# Altium integrated library Panasonic_ERJ_1206.IntLib: 1141 symbols (part 3 of 22)
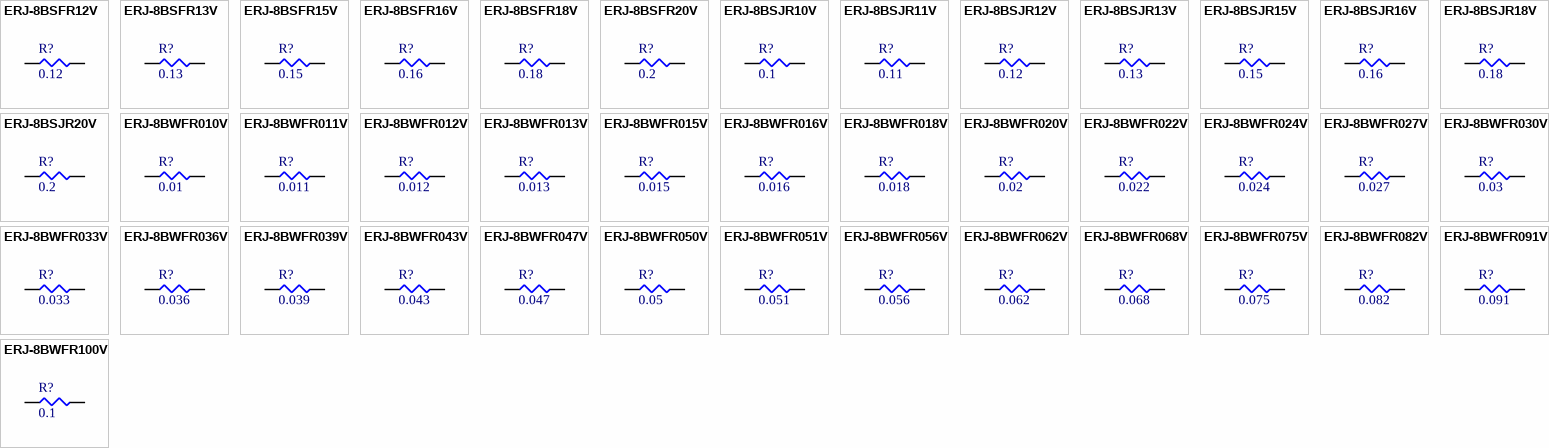
[diagram p30: symbols ERJ-8BSFR12V to ERJ-8BWFR100V]

## ERJ-8BWFR027V
designator R?, comment 0.027
RES SMD 0.027 OHM 1% 1W 1206; Part Number: ERJ-8BWFR027V; Manufacturer: Panasonic Electronic Components; Factory Stock: 0; Unit Price (USD): 0.23625; @ qty: 1500; Minimum Quantity: 1; Temperature Coefficient: ±150ppm/°C; Datasheets: https://industrial.panasonic.com/cdbs/www-data/pdf/RDA0000/AOA0000C239.pdf; Image: //media.digikey.com/Renders/Panasonic%20Renders/ERJ-1206%20Pkg.jpg; Digi-Key Part Number: P.027AUCT-ND; Quantity Available: 7593; Packaging: Cut Tape (CT); Series: ERJ; Part Status: Active; Value: 0.027; Tolerance: ±1%; Power (Watts): 1W; Composition: Thick Film; Features: Automotive AEC-Q200, Current Sense; Operating Temperature: -55°C ~ 155°C; Package / Case: 1206 (3216 Metric); Supplier Device Package: 1206; Size / Dimension: 0.126" L x 0.063" W (3.20mm x 1.60mm); Height - Seated (Max): 0.030" (0.75mm); Number of Terminations: 2; Failure Rate: -
footprint SMD-1206-RES
pins: 1, 2

## ERJ-8BWFR030V
designator R?, comment 0.03
RES SMD 0.03 OHM 1% 1W 1206; Part Number: ERJ-8BWFR030V; Manufacturer: Panasonic Electronic Components; Factory Stock: 0; Unit Price (USD): 0.23625; @ qty: 1500; Minimum Quantity: 1; Temperature Coefficient: ±150ppm/°C; Datasheets: https://industrial.panasonic.com/cdbs/www-data/pdf/RDA0000/AOA0000C239.pdf; Image: //media.digikey.com/Renders/Panasonic%20Renders/ERJ-1206%20Pkg.jpg; Digi-Key Part Number: P.030AUCT-ND; Quantity Available: 5151; Packaging: Cut Tape (CT); Series: ERJ; Part Status: Active; Value: 0.03; Tolerance: ±1%; Power (Watts): 1W; Composition: Thick Film; Features: Automotive AEC-Q200, Current Sense; Operating Temperature: -55°C ~ 155°C; Package / Case: 1206 (3216 Metric); Supplier Device Package: 1206; Size / Dimension: 0.126" L x 0.063" W (3.20mm x 1.60mm); Height - Seated (Max): 0.030" (0.75mm); Number of Terminations: 2; Failure Rate: -
footprint SMD-1206-RES
pins: 1, 2

## ERJ-8BWFR033V
designator R?, comment 0.033
RES SMD 0.033 OHM 1% 1W 1206; Part Number: ERJ-8BWFR033V; Manufacturer: Panasonic Electronic Components; Factory Stock: 0; Unit Price (USD): 0.23625; @ qty: 1500; Minimum Quantity: 1; Temperature Coefficient: ±150ppm/°C; Datasheets: https://industrial.panasonic.com/cdbs/www-data/pdf/RDA0000/AOA0000C239.pdf; Image: //media.digikey.com/Renders/Panasonic%20Renders/ERJ-1206%20Pkg.jpg; Digi-Key Part Number: P.033AUCT-ND; Quantity Available: 17144; Packaging: Cut Tape (CT); Series: ERJ; Part Status: Active; Value: 0.033; Tolerance: ±1%; Power (Watts): 1W; Composition: Thick Film; Features: Automotive AEC-Q200, Current Sense; Operating Temperature: -55°C ~ 155°C; Package / Case: 1206 (3216 Metric); Supplier Device Package: 1206; Size / Dimension: 0.126" L x 0.063" W (3.20mm x 1.60mm); Height - Seated (Max): 0.030" (0.75mm); Number of Terminations: 2; Failure Rate: -
footprint SMD-1206-RES
pins: 1, 2

## ERJ-8BWFR036V
designator R?, comment 0.036
RES SMD 0.036 OHM 1% 1W 1206; Part Number: ERJ-8BWFR036V; Manufacturer: Panasonic Electronic Components; Factory Stock: 0; Unit Price (USD): 0.23625; @ qty: 1500; Minimum Quantity: 1; Temperature Coefficient: ±150ppm/°C; Datasheets: https://industrial.panasonic.com/cdbs/www-data/pdf/RDA0000/AOA0000C239.pdf; Image: //media.digikey.com/Renders/Panasonic%20Renders/ERJ-1206%20Pkg.jpg; Digi-Key Part Number: P.036AUCT-ND; Quantity Available: 11848; Packaging: Cut Tape (CT); Series: ERJ; Part Status: Active; Value: 0.036; Tolerance: ±1%; Power (Watts): 1W; Composition: Thick Film; Features: Automotive AEC-Q200, Current Sense; Operating Temperature: -55°C ~ 155°C; Package / Case: 1206 (3216 Metric); Supplier Device Package: 1206; Size / Dimension: 0.126" L x 0.063" W (3.20mm x 1.60mm); Height - Seated (Max): 0.030" (0.75mm); Number of Terminations: 2; Failure Rate: -
footprint SMD-1206-RES
pins: 1, 2

## ERJ-8BWFR039V
designator R?, comment 0.039
RES SMD 0.039 OHM 1% 1W 1206; Part Number: ERJ-8BWFR039V; Manufacturer: Panasonic Electronic Components; Factory Stock: 0; Unit Price (USD): 0.23625; @ qty: 1500; Minimum Quantity: 1; Temperature Coefficient: ±150ppm/°C; Datasheets: https://industrial.panasonic.com/cdbs/www-data/pdf/RDA0000/AOA0000C239.pdf; Image: //media.digikey.com/Renders/Panasonic%20Renders/ERJ-1206%20Pkg.jpg; Digi-Key Part Number: P.039AUCT-ND; Quantity Available: 15212; Packaging: Cut Tape (CT); Series: ERJ; Part Status: Active; Value: 0.039; Tolerance: ±1%; Power (Watts): 1W; Composition: Thick Film; Features: Automotive AEC-Q200, Current Sense; Operating Temperature: -55°C ~ 155°C; Package / Case: 1206 (3216 Metric); Supplier Device Package: 1206; Size / Dimension: 0.126" L x 0.063" W (3.20mm x 1.60mm); Height - Seated (Max): 0.030" (0.75mm); Number of Terminations: 2; Failure Rate: -
footprint SMD-1206-RES
pins: 1, 2

## ERJ-8BWFR043V
designator R?, comment 0.043
RES SMD 0.043 OHM 1% 1W 1206; Part Number: ERJ-8BWFR043V; Manufacturer: Panasonic Electronic Components; Factory Stock: 0; Unit Price (USD): 0.23625; @ qty: 1500; Minimum Quantity: 1; Temperature Coefficient: ±150ppm/°C; Datasheets: https://industrial.panasonic.com/cdbs/www-data/pdf/RDA0000/AOA0000C239.pdf; Image: //media.digikey.com/Renders/Panasonic%20Renders/ERJ-1206%20Pkg.jpg; Digi-Key Part Number: P.043AUCT-ND; Quantity Available: 6611; Packaging: Cut Tape (CT); Series: ERJ; Part Status: Active; Value: 0.043; Tolerance: ±1%; Power (Watts): 1W; Composition: Thick Film; Features: Automotive AEC-Q200, Current Sense; Operating Temperature: -55°C ~ 155°C; Package / Case: 1206 (3216 Metric); Supplier Device Package: 1206; Size / Dimension: 0.126" L x 0.063" W (3.20mm x 1.60mm); Height - Seated (Max): 0.030" (0.75mm); Number of Terminations: 2; Failure Rate: -
footprint SMD-1206-RES
pins: 1, 2

## ERJ-8BWFR047V
designator R?, comment 0.047
RES SMD 0.047 OHM 1% 1W 1206; Part Number: ERJ-8BWFR047V; Manufacturer: Panasonic Electronic Components; Factory Stock: 0; Unit Price (USD): 0.23625; @ qty: 1500; Minimum Quantity: 1; Temperature Coefficient: ±100ppm/°C; Datasheets: https://industrial.panasonic.com/cdbs/www-data/pdf/RDA0000/AOA0000C239.pdf; Image: //media.digikey.com/Renders/Panasonic%20Renders/ERJ-1206%20Pkg.jpg; Digi-Key Part Number: P.047AUCT-ND; Quantity Available: 4155; Packaging: Cut Tape (CT); Series: ERJ; Part Status: Active; Value: 0.047; Tolerance: ±1%; Power (Watts): 1W; Composition: Thick Film; Features: Automotive AEC-Q200, Current Sense; Operating Temperature: -55°C ~ 155°C; Package / Case: 1206 (3216 Metric); Supplier Device Package: 1206; Size / Dimension: 0.126" L x 0.063" W (3.20mm x 1.60mm); Height - Seated (Max): 0.030" (0.75mm); Number of Terminations: 2; Failure Rate: -
footprint SMD-1206-RES
pins: 1, 2

## ERJ-8BWFR050V
designator R?, comment 0.05
RES SMD 0.05 OHM 1% 1W 1206; Part Number: ERJ-8BWFR050V; Manufacturer: Panasonic Electronic Components; Factory Stock: 0; Unit Price (USD): 0.19818; @ qty: 1500; Minimum Quantity: 1; Temperature Coefficient: ±100ppm/°C; Datasheets: https://industrial.panasonic.com/cdbs/www-data/pdf/RDA0000/AOA0000C239.pdf; Image: //media.digikey.com/Renders/Panasonic%20Renders/ERJ-1206%20Pkg.jpg; Digi-Key Part Number: P17693CT-ND; Quantity Available: 799; Packaging: Cut Tape (CT); Series: ERJ; Part Status: Active; Value: 0.05; Tolerance: ±1%; Power (Watts): 1W; Composition: Thick Film; Features: Automotive AEC-Q200, Current Sense; Operating Temperature: -55°C ~ 155°C; Package / Case: 1206 (3216 Metric); Supplier Device Package: 1206; Size / Dimension: 0.126" L x 0.063" W (3.20mm x 1.60mm); Height - Seated (Max): 0.030" (0.75mm); Number of Terminations: 2; Failure Rate: -
footprint SMD-1206-RES
pins: 1, 2

## ERJ-8BWFR051V
designator R?, comment 0.051
RES SMD 0.051 OHM 1% 1W 1206; Part Number: ERJ-8BWFR051V; Manufacturer: Panasonic Electronic Components; Factory Stock: 0; Unit Price (USD): 0.23625; @ qty: 1500; Minimum Quantity: 1; Temperature Coefficient: ±100ppm/°C; Datasheets: https://industrial.panasonic.com/cdbs/www-data/pdf/RDA0000/AOA0000C239.pdf; Image: //media.digikey.com/Renders/Panasonic%20Renders/ERJ-1206%20Pkg.jpg; Digi-Key Part Number: P.051AUCT-ND; Quantity Available: 4281; Packaging: Cut Tape (CT); Series: ERJ; Part Status: Active; Value: 0.051; Tolerance: ±1%; Power (Watts): 1W; Composition: Thick Film; Features: Automotive AEC-Q200, Current Sense; Operating Temperature: -55°C ~ 155°C; Package / Case: 1206 (3216 Metric); Supplier Device Package: 1206; Size / Dimension: 0.126" L x 0.063" W (3.20mm x 1.60mm); Height - Seated (Max): 0.030" (0.75mm); Number of Terminations: 2; Failure Rate: -
footprint SMD-1206-RES
pins: 1, 2

## ERJ-8BWFR056V
designator R?, comment 0.056
RES SMD 0.056 OHM 1% 1W 1206; Part Number: ERJ-8BWFR056V; Manufacturer: Panasonic Electronic Components; Factory Stock: 0; Unit Price (USD): 0.23625; @ qty: 1500; Minimum Quantity: 1; Temperature Coefficient: ±100ppm/°C; Datasheets: https://industrial.panasonic.com/cdbs/www-data/pdf/RDA0000/AOA0000C239.pdf; Image: //media.digikey.com/Renders/Panasonic%20Renders/ERJ-1206%20Pkg.jpg; Digi-Key Part Number: P.056AUCT-ND; Quantity Available: 3785; Packaging: Cut Tape (CT); Series: ERJ; Part Status: Active; Value: 0.056; Tolerance: ±1%; Power (Watts): 1W; Composition: Thick Film; Features: Automotive AEC-Q200, Current Sense; Operating Temperature: -55°C ~ 155°C; Package / Case: 1206 (3216 Metric); Supplier Device Package: 1206; Size / Dimension: 0.126" L x 0.063" W (3.20mm x 1.60mm); Height - Seated (Max): 0.030" (0.75mm); Number of Terminations: 2; Failure Rate: -
footprint SMD-1206-RES
pins: 1, 2

## ERJ-8BWFR062V
designator R?, comment 0.062
RES SMD 0.062 OHM 1% 1W 1206; Part Number: ERJ-8BWFR062V; Manufacturer: Panasonic Electronic Components; Factory Stock: 0; Unit Price (USD): 0.23625; @ qty: 1500; Minimum Quantity: 1; Temperature Coefficient: ±100ppm/°C; Datasheets: https://industrial.panasonic.com/cdbs/www-data/pdf/RDA0000/AOA0000C239.pdf; Image: //media.digikey.com/Renders/Panasonic%20Renders/ERJ-1206%20Pkg.jpg; Digi-Key Part Number: P.062AUCT-ND; Quantity Available: 3280; Packaging: Cut Tape (CT); Series: ERJ; Part Status: Active; Value: 0.062; Tolerance: ±1%; Power (Watts): 1W; Composition: Thick Film; Features: Automotive AEC-Q200, Current Sense; Operating Temperature: -55°C ~ 155°C; Package / Case: 1206 (3216 Metric); Supplier Device Package: 1206; Size / Dimension: 0.126" L x 0.063" W (3.20mm x 1.60mm); Height - Seated (Max): 0.030" (0.75mm); Number of Terminations: 2; Failure Rate: -
footprint SMD-1206-RES
pins: 1, 2

## ERJ-8BWFR068V
designator R?, comment 0.068
RES SMD 0.068 OHM 1% 1W 1206; Part Number: ERJ-8BWFR068V; Manufacturer: Panasonic Electronic Components; Factory Stock: 0; Unit Price (USD): 0.23625; @ qty: 1500; Minimum Quantity: 1; Temperature Coefficient: ±100ppm/°C; Datasheets: https://industrial.panasonic.com/cdbs/www-data/pdf/RDA0000/AOA0000C239.pdf; Image: //media.digikey.com/Renders/Panasonic%20Renders/ERJ-1206%20Pkg.jpg; Digi-Key Part Number: P.068AUCT-ND; Quantity Available: 1520; Packaging: Cut Tape (CT); Series: ERJ; Part Status: Active; Value: 0.068; Tolerance: ±1%; Power (Watts): 1W; Composition: Thick Film; Features: Automotive AEC-Q200, Current Sense; Operating Temperature: -55°C ~ 155°C; Package / Case: 1206 (3216 Metric); Supplier Device Package: 1206; Size / Dimension: 0.126" L x 0.063" W (3.20mm x 1.60mm); Height - Seated (Max): 0.030" (0.75mm); Number of Terminations: 2; Failure Rate: -
footprint SMD-1206-RES
pins: 1, 2

## ERJ-8BWFR075V
designator R?, comment 0.075
RES SMD 0.075 OHM 1% 1W 1206; Part Number: ERJ-8BWFR075V; Manufacturer: Panasonic Electronic Components; Factory Stock: 0; Unit Price (USD): 0.23625; @ qty: 1500; Minimum Quantity: 1; Temperature Coefficient: ±100ppm/°C; Datasheets: https://industrial.panasonic.com/cdbs/www-data/pdf/RDA0000/AOA0000C239.pdf; Image: //media.digikey.com/Renders/Panasonic%20Renders/ERJ-1206%20Pkg.jpg; Digi-Key Part Number: P.075AUCT-ND; Quantity Available: 8511; Packaging: Cut Tape (CT); Series: ERJ; Part Status: Active; Value: 0.075; Tolerance: ±1%; Power (Watts): 1W; Composition: Thick Film; Features: Automotive AEC-Q200, Current Sense; Operating Temperature: -55°C ~ 155°C; Package / Case: 1206 (3216 Metric); Supplier Device Package: 1206; Size / Dimension: 0.126" L x 0.063" W (3.20mm x 1.60mm); Height - Seated (Max): 0.030" (0.75mm); Number of Terminations: 2; Failure Rate: -
footprint SMD-1206-RES
pins: 1, 2

## ERJ-8BWFR082V
designator R?, comment 0.082
RES SMD 0.082 OHM 1% 1W 1206; Part Number: ERJ-8BWFR082V; Manufacturer: Panasonic Electronic Components; Factory Stock: 0; Unit Price (USD): 0.23625; @ qty: 1500; Minimum Quantity: 1; Temperature Coefficient: ±100ppm/°C; Datasheets: https://industrial.panasonic.com/cdbs/www-data/pdf/RDA0000/AOA0000C239.pdf; Image: //media.digikey.com/Renders/Panasonic%20Renders/ERJ-1206%20Pkg.jpg; Digi-Key Part Number: P.082AUCT-ND; Quantity Available: 8136; Packaging: Cut Tape (CT); Series: ERJ; Part Status: Active; Value: 0.082; Tolerance: ±1%; Power (Watts): 1W; Composition: Thick Film; Features: Automotive AEC-Q200, Current Sense; Operating Temperature: -55°C ~ 155°C; Package / Case: 1206 (3216 Metric); Supplier Device Package: 1206; Size / Dimension: 0.126" L x 0.063" W (3.20mm x 1.60mm); Height - Seated (Max): 0.030" (0.75mm); Number of Terminations: 2; Failure Rate: -
footprint SMD-1206-RES
pins: 1, 2

## ERJ-8BWFR091V
designator R?, comment 0.091
RES SMD 0.091 OHM 1% 1W 1206; Part Number: ERJ-8BWFR091V; Manufacturer: Panasonic Electronic Components; Factory Stock: 0; Unit Price (USD): 0.23625; @ qty: 1500; Minimum Quantity: 1; Temperature Coefficient: ±100ppm/°C; Datasheets: https://industrial.panasonic.com/cdbs/www-data/pdf/RDA0000/AOA0000C239.pdf; Image: //media.digikey.com/Renders/Panasonic%20Renders/ERJ-1206%20Pkg.jpg; Digi-Key Part Number: P.091AUCT-ND; Quantity Available: 1966; Packaging: Cut Tape (CT); Series: ERJ; Part Status: Active; Value: 0.091; Tolerance: ±1%; Power (Watts): 1W; Composition: Thick Film; Features: Automotive AEC-Q200, Current Sense; Operating Temperature: -55°C ~ 155°C; Package / Case: 1206 (3216 Metric); Supplier Device Package: 1206; Size / Dimension: 0.126" L x 0.063" W (3.20mm x 1.60mm); Height - Seated (Max): 0.030" (0.75mm); Number of Terminations: 2; Failure Rate: -
footprint SMD-1206-RES
pins: 1, 2

## ERJ-8BWFR100V
designator R?, comment 0.1
RES SMD 0.1 OHM 1% 1W 1206; Part Number: ERJ-8BWFR100V; Manufacturer: Panasonic Electronic Components; Factory Stock: 0; Unit Price (USD): 0.23625; @ qty: 1500; Minimum Quantity: 1; Temperature Coefficient: ±100ppm/°C; Datasheets: https://industrial.panasonic.com/cdbs/www-data/pdf/RDA0000/AOA0000C239.pdf; Image: //media.digikey.com/Renders/Panasonic%20Renders/ERJ-1206%20Pkg.jpg; Digi-Key Part Number: P.10AUCT-ND; Quantity Available: 16073; Packaging: Cut Tape (CT); Series: ERJ; Part Status: Active; Value: 0.1; Tolerance: ±1%; Power (Watts): 1W; Composition: Thick Film; Features: Automotive AEC-Q200, Current Sense; Operating Temperature: -55°C ~ 155°C; Package / Case: 1206 (3216 Metric); Supplier Device Package: 1206; Size / Dimension: 0.126" L x 0.063" W (3.20mm x 1.60mm); Height - Seated (Max): 0.030" (0.75mm); Number of Terminations: 2; Failure Rate: -
footprint SMD-1206-RES
pins: 1, 2

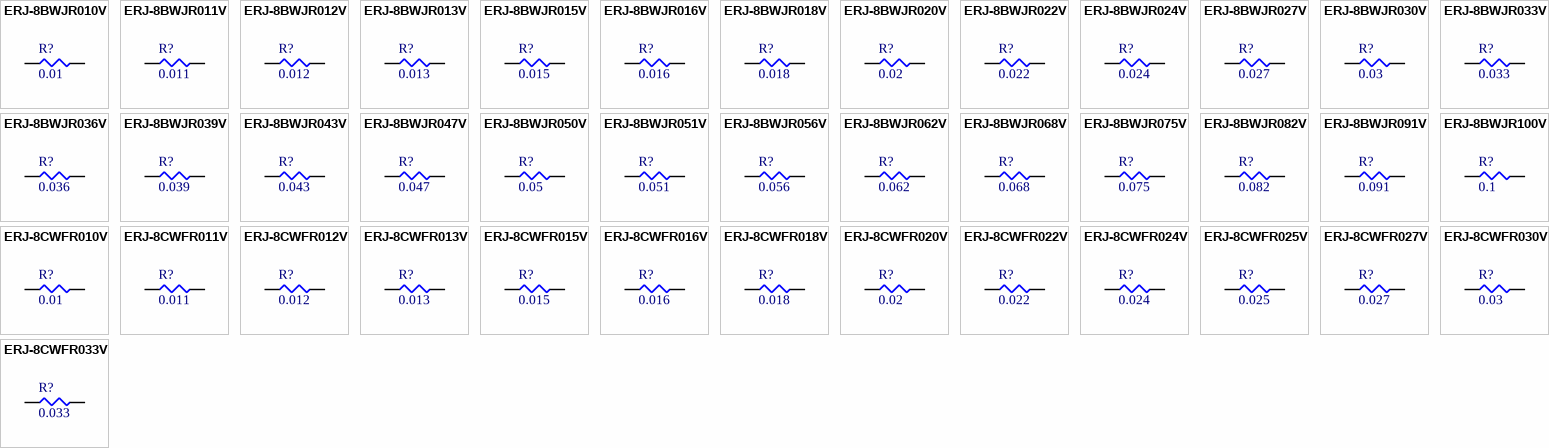
[diagram p3: symbols ERJ-8BWJR010V to ERJ-8CWFR033V]

## ERJ-8BWJR010V
designator R?, comment 0.01
RES SMD 0.01 OHM 5% 1W 1206; Part Number: ERJ-8BWJR010V; Manufacturer: Panasonic Electronic Components; Factory Stock: 0; Unit Price (USD): 0.15894; @ qty: 1500; Minimum Quantity: 1; Temperature Coefficient: ±200ppm/°C; Datasheets: https://industrial.panasonic.com/cdbs/www-data/pdf/RDA0000/AOA0000C239.pdf; Image: //media.digikey.com/Renders/Panasonic%20Renders/ERJ-1206%20Pkg.jpg; Digi-Key Part Number: P.010AVCT-ND; Quantity Available: 7438; Packaging: Cut Tape (CT); Series: ERJ; Part Status: Active; Value: 0.01; Tolerance: ±5%; Power (Watts): 1W; Composition: Thick Film; Features: Automotive AEC-Q200, Current Sense; Operating Temperature: -55°C ~ 155°C; Package / Case: 1206 (3216 Metric); Supplier Device Package: 1206; Size / Dimension: 0.126" L x 0.063" W (3.20mm x 1.60mm); Height - Seated (Max): 0.030" (0.75mm); Number of Terminations: 2; Failure Rate: -
footprint SMD-1206-RES
pins: 1, 2

## ERJ-8BWJR011V
designator R?, comment 0.011
RES SMD 0.011 OHM 5% 1W 1206; Part Number: ERJ-8BWJR011V; Manufacturer: Panasonic Electronic Components; Factory Stock: 0; Unit Price (USD): 0.15894; @ qty: 1500; Minimum Quantity: 1; Temperature Coefficient: ±200ppm/°C; Datasheets: https://industrial.panasonic.com/cdbs/www-data/pdf/RDA0000/AOA0000C239.pdf; Image: //media.digikey.com/Renders/Panasonic%20Renders/ERJ-1206%20Pkg.jpg; Digi-Key Part Number: P.011AVCT-ND; Quantity Available: 5234; Packaging: Cut Tape (CT); Series: ERJ; Part Status: Active; Value: 0.011; Tolerance: ±5%; Power (Watts): 1W; Composition: Thick Film; Features: Automotive AEC-Q200, Current Sense; Operating Temperature: -55°C ~ 155°C; Package / Case: 1206 (3216 Metric); Supplier Device Package: 1206; Size / Dimension: 0.126" L x 0.063" W (3.20mm x 1.60mm); Height - Seated (Max): 0.030" (0.75mm); Number of Terminations: 2; Failure Rate: -
footprint SMD-1206-RES
pins: 1, 2

## ERJ-8BWJR012V
designator R?, comment 0.012
RES SMD 0.012 OHM 5% 1W 1206; Part Number: ERJ-8BWJR012V; Manufacturer: Panasonic Electronic Components; Factory Stock: 0; Unit Price (USD): 0.15894; @ qty: 1500; Minimum Quantity: 1; Temperature Coefficient: ±200ppm/°C; Datasheets: https://industrial.panasonic.com/cdbs/www-data/pdf/RDA0000/AOA0000C239.pdf; Image: //media.digikey.com/Renders/Panasonic%20Renders/ERJ-1206%20Pkg.jpg; Digi-Key Part Number: P.012AVCT-ND; Quantity Available: 6598; Packaging: Cut Tape (CT); Series: ERJ; Part Status: Active; Value: 0.012; Tolerance: ±5%; Power (Watts): 1W; Composition: Thick Film; Features: Automotive AEC-Q200, Current Sense; Operating Temperature: -55°C ~ 155°C; Package / Case: 1206 (3216 Metric); Supplier Device Package: 1206; Size / Dimension: 0.126" L x 0.063" W (3.20mm x 1.60mm); Height - Seated (Max): 0.030" (0.75mm); Number of Terminations: 2; Failure Rate: -
footprint SMD-1206-RES
pins: 1, 2

## ERJ-8BWJR013V
designator R?, comment 0.013
RES SMD 0.013 OHM 5% 1W 1206; Part Number: ERJ-8BWJR013V; Manufacturer: Panasonic Electronic Components; Factory Stock: 0; Unit Price (USD): 0.15894; @ qty: 1500; Minimum Quantity: 1; Temperature Coefficient: ±200ppm/°C; Datasheets: https://industrial.panasonic.com/cdbs/www-data/pdf/RDA0000/AOA0000C239.pdf; Image: //media.digikey.com/Renders/Panasonic%20Renders/ERJ-1206%20Pkg.jpg; Digi-Key Part Number: P.013AVCT-ND; Quantity Available: 9705; Packaging: Cut Tape (CT); Series: ERJ; Part Status: Active; Value: 0.013; Tolerance: ±5%; Power (Watts): 1W; Composition: Thick Film; Features: Automotive AEC-Q200, Current Sense; Operating Temperature: -55°C ~ 155°C; Package / Case: 1206 (3216 Metric); Supplier Device Package: 1206; Size / Dimension: 0.126" L x 0.063" W (3.20mm x 1.60mm); Height - Seated (Max): 0.030" (0.75mm); Number of Terminations: 2; Failure Rate: -
footprint SMD-1206-RES
pins: 1, 2

## ERJ-8BWJR015V
designator R?, comment 0.015
RES SMD 0.015 OHM 5% 1W 1206; Part Number: ERJ-8BWJR015V; Manufacturer: Panasonic Electronic Components; Factory Stock: 0; Unit Price (USD): 0.15894; @ qty: 1500; Minimum Quantity: 1; Temperature Coefficient: ±200ppm/°C; Datasheets: https://industrial.panasonic.com/cdbs/www-data/pdf/RDA0000/AOA0000C239.pdf; Image: //media.digikey.com/Renders/Panasonic%20Renders/ERJ-1206%20Pkg.jpg; Digi-Key Part Number: P.015AVCT-ND; Quantity Available: 6792; Packaging: Cut Tape (CT); Series: ERJ; Part Status: Active; Value: 0.015; Tolerance: ±5%; Power (Watts): 1W; Composition: Thick Film; Features: Automotive AEC-Q200, Current Sense; Operating Temperature: -55°C ~ 155°C; Package / Case: 1206 (3216 Metric); Supplier Device Package: 1206; Size / Dimension: 0.126" L x 0.063" W (3.20mm x 1.60mm); Height - Seated (Max): 0.030" (0.75mm); Number of Terminations: 2; Failure Rate: -
footprint SMD-1206-RES
pins: 1, 2

## ERJ-8BWJR016V
designator R?, comment 0.016
RES SMD 0.016 OHM 5% 1W 1206; Part Number: ERJ-8BWJR016V; Manufacturer: Panasonic Electronic Components; Factory Stock: 0; Unit Price (USD): 0.15894; @ qty: 1500; Minimum Quantity: 1; Temperature Coefficient: ±200ppm/°C; Datasheets: https://industrial.panasonic.com/cdbs/www-data/pdf/RDA0000/AOA0000C239.pdf; Image: //media.digikey.com/Renders/Panasonic%20Renders/ERJ-1206%20Pkg.jpg; Digi-Key Part Number: P.016AVCT-ND; Quantity Available: 10866; Packaging: Cut Tape (CT); Series: ERJ; Part Status: Active; Value: 0.016; Tolerance: ±5%; Power (Watts): 1W; Composition: Thick Film; Features: Automotive AEC-Q200, Current Sense; Operating Temperature: -55°C ~ 155°C; Package / Case: 1206 (3216 Metric); Supplier Device Package: 1206; Size / Dimension: 0.126" L x 0.063" W (3.20mm x 1.60mm); Height - Seated (Max): 0.030" (0.75mm); Number of Terminations: 2; Failure Rate: -
footprint SMD-1206-RES
pins: 1, 2

## ERJ-8BWJR018V
designator R?, comment 0.018
RES SMD 0.018 OHM 5% 1W 1206; Part Number: ERJ-8BWJR018V; Manufacturer: Panasonic Electronic Components; Factory Stock: 0; Unit Price (USD): 0.15894; @ qty: 1500; Minimum Quantity: 1; Temperature Coefficient: ±200ppm/°C; Datasheets: https://industrial.panasonic.com/cdbs/www-data/pdf/RDA0000/AOA0000C239.pdf; Image: //media.digikey.com/Renders/Panasonic%20Renders/ERJ-1206%20Pkg.jpg; Digi-Key Part Number: P.018AVCT-ND; Quantity Available: 7867; Packaging: Cut Tape (CT); Series: ERJ; Part Status: Active; Value: 0.018; Tolerance: ±5%; Power (Watts): 1W; Composition: Thick Film; Features: Automotive AEC-Q200, Current Sense; Operating Temperature: -55°C ~ 155°C; Package / Case: 1206 (3216 Metric); Supplier Device Package: 1206; Size / Dimension: 0.126" L x 0.063" W (3.20mm x 1.60mm); Height - Seated (Max): 0.030" (0.75mm); Number of Terminations: 2; Failure Rate: -
footprint SMD-1206-RES
pins: 1, 2

## ERJ-8BWJR020V
designator R?, comment 0.02
RES SMD 0.02 OHM 5% 1W 1206; Part Number: ERJ-8BWJR020V; Manufacturer: Panasonic Electronic Components; Factory Stock: 0; Unit Price (USD): 0.15894; @ qty: 1500; Minimum Quantity: 1; Temperature Coefficient: ±150ppm/°C; Datasheets: https://industrial.panasonic.com/cdbs/www-data/pdf/RDA0000/AOA0000C239.pdf; Image: //media.digikey.com/Renders/Panasonic%20Renders/ERJ-1206%20Pkg.jpg; Digi-Key Part Number: P.020AVCT-ND; Quantity Available: 18071; Packaging: Cut Tape (CT); Series: ERJ; Part Status: Active; Value: 0.02; Tolerance: ±5%; Power (Watts): 1W; Composition: Thick Film; Features: Automotive AEC-Q200, Current Sense; Operating Temperature: -55°C ~ 155°C; Package / Case: 1206 (3216 Metric); Supplier Device Package: 1206; Size / Dimension: 0.126" L x 0.063" W (3.20mm x 1.60mm); Height - Seated (Max): 0.030" (0.75mm); Number of Terminations: 2; Failure Rate: -
footprint SMD-1206-RES
pins: 1, 2

## ERJ-8BWJR022V
designator R?, comment 0.022
RES SMD 0.022 OHM 5% 1W 1206; Part Number: ERJ-8BWJR022V; Manufacturer: Panasonic Electronic Components; Factory Stock: 0; Unit Price (USD): 0.15894; @ qty: 1500; Minimum Quantity: 1; Temperature Coefficient: ±150ppm/°C; Datasheets: https://industrial.panasonic.com/cdbs/www-data/pdf/RDA0000/AOA0000C239.pdf; Image: //media.digikey.com/Renders/Panasonic%20Renders/ERJ-1206%20Pkg.jpg; Digi-Key Part Number: P.022AVCT-ND; Quantity Available: 14245; Packaging: Cut Tape (CT); Series: ERJ; Part Status: Active; Value: 0.022; Tolerance: ±5%; Power (Watts): 1W; Composition: Thick Film; Features: Automotive AEC-Q200, Current Sense; Operating Temperature: -55°C ~ 155°C; Package / Case: 1206 (3216 Metric); Supplier Device Package: 1206; Size / Dimension: 0.126" L x 0.063" W (3.20mm x 1.60mm); Height - Seated (Max): 0.030" (0.75mm); Number of Terminations: 2; Failure Rate: -
footprint SMD-1206-RES
pins: 1, 2

## ERJ-8BWJR024V
designator R?, comment 0.024
RES SMD 0.024 OHM 5% 1W 1206; Part Number: ERJ-8BWJR024V; Manufacturer: Panasonic Electronic Components; Factory Stock: 0; Unit Price (USD): 0.15894; @ qty: 1500; Minimum Quantity: 1; Temperature Coefficient: ±150ppm/°C; Datasheets: https://industrial.panasonic.com/cdbs/www-data/pdf/RDA0000/AOA0000C239.pdf; Image: //media.digikey.com/Renders/Panasonic%20Renders/ERJ-1206%20Pkg.jpg; Digi-Key Part Number: P.024AVCT-ND; Quantity Available: 2648; Packaging: Cut Tape (CT); Series: ERJ; Part Status: Active; Value: 0.024; Tolerance: ±5%; Power (Watts): 1W; Composition: Thick Film; Features: Automotive AEC-Q200, Current Sense; Operating Temperature: -55°C ~ 155°C; Package / Case: 1206 (3216 Metric); Supplier Device Package: 1206; Size / Dimension: 0.126" L x 0.063" W (3.20mm x 1.60mm); Height - Seated (Max): 0.030" (0.75mm); Number of Terminations: 2; Failure Rate: -
footprint SMD-1206-RES
pins: 1, 2

## ERJ-8BWJR027V
designator R?, comment 0.027
RES SMD 0.027 OHM 5% 1W 1206; Part Number: ERJ-8BWJR027V; Manufacturer: Panasonic Electronic Components; Factory Stock: 0; Unit Price (USD): 0.15894; @ qty: 1500; Minimum Quantity: 1; Temperature Coefficient: ±150ppm/°C; Datasheets: https://industrial.panasonic.com/cdbs/www-data/pdf/RDA0000/AOA0000C239.pdf; Image: //media.digikey.com/Renders/Panasonic%20Renders/ERJ-1206%20Pkg.jpg; Digi-Key Part Number: P.027AVCT-ND; Quantity Available: 11150; Packaging: Cut Tape (CT); Series: ERJ; Part Status: Active; Value: 0.027; Tolerance: ±5%; Power (Watts): 1W; Composition: Thick Film; Features: Automotive AEC-Q200, Current Sense; Operating Temperature: -55°C ~ 155°C; Package / Case: 1206 (3216 Metric); Supplier Device Package: 1206; Size / Dimension: 0.126" L x 0.063" W (3.20mm x 1.60mm); Height - Seated (Max): 0.030" (0.75mm); Number of Terminations: 2; Failure Rate: -
footprint SMD-1206-RES
pins: 1, 2

## ERJ-8BWJR030V
designator R?, comment 0.03
RES SMD 0.03 OHM 5% 1W 1206; Part Number: ERJ-8BWJR030V; Manufacturer: Panasonic Electronic Components; Factory Stock: 0; Unit Price (USD): 0.15894; @ qty: 1500; Minimum Quantity: 1; Temperature Coefficient: ±150ppm/°C; Datasheets: https://industrial.panasonic.com/cdbs/www-data/pdf/RDA0000/AOA0000C239.pdf; Image: //media.digikey.com/Renders/Panasonic%20Renders/ERJ-1206%20Pkg.jpg; Digi-Key Part Number: P.030AVCT-ND; Quantity Available: 11827; Packaging: Cut Tape (CT); Series: ERJ; Part Status: Active; Value: 0.03; Tolerance: ±5%; Power (Watts): 1W; Composition: Thick Film; Features: Automotive AEC-Q200, Current Sense; Operating Temperature: -55°C ~ 155°C; Package / Case: 1206 (3216 Metric); Supplier Device Package: 1206; Size / Dimension: 0.126" L x 0.063" W (3.20mm x 1.60mm); Height - Seated (Max): 0.030" (0.75mm); Number of Terminations: 2; Failure Rate: -
footprint SMD-1206-RES
pins: 1, 2

## ERJ-8BWJR033V
designator R?, comment 0.033
RES SMD 0.033 OHM 5% 1W 1206; Part Number: ERJ-8BWJR033V; Manufacturer: Panasonic Electronic Components; Factory Stock: 0; Unit Price (USD): 0.15894; @ qty: 1500; Minimum Quantity: 1; Temperature Coefficient: ±150ppm/°C; Datasheets: https://industrial.panasonic.com/cdbs/www-data/pdf/RDA0000/AOA0000C239.pdf; Image: //media.digikey.com/Renders/Panasonic%20Renders/ERJ-1206%20Pkg.jpg; Digi-Key Part Number: P.033AVCT-ND; Quantity Available: 16548; Packaging: Cut Tape (CT); Series: ERJ; Part Status: Active; Value: 0.033; Tolerance: ±5%; Power (Watts): 1W; Composition: Thick Film; Features: Automotive AEC-Q200, Current Sense; Operating Temperature: -55°C ~ 155°C; Package / Case: 1206 (3216 Metric); Supplier Device Package: 1206; Size / Dimension: 0.126" L x 0.063" W (3.20mm x 1.60mm); Height - Seated (Max): 0.030" (0.75mm); Number of Terminations: 2; Failure Rate: -
footprint SMD-1206-RES
pins: 1, 2

## ERJ-8BWJR036V
designator R?, comment 0.036
RES SMD 0.036 OHM 5% 1W 1206; Part Number: ERJ-8BWJR036V; Manufacturer: Panasonic Electronic Components; Factory Stock: 0; Unit Price (USD): 0.15894; @ qty: 1500; Minimum Quantity: 1; Temperature Coefficient: ±150ppm/°C; Datasheets: https://industrial.panasonic.com/cdbs/www-data/pdf/RDA0000/AOA0000C239.pdf; Image: //media.digikey.com/Renders/Panasonic%20Renders/ERJ-1206%20Pkg.jpg; Digi-Key Part Number: P.036AVCT-ND; Quantity Available: 5468; Packaging: Cut Tape (CT); Series: ERJ; Part Status: Active; Value: 0.036; Tolerance: ±5%; Power (Watts): 1W; Composition: Thick Film; Features: Automotive AEC-Q200, Current Sense; Operating Temperature: -55°C ~ 155°C; Package / Case: 1206 (3216 Metric); Supplier Device Package: 1206; Size / Dimension: 0.126" L x 0.063" W (3.20mm x 1.60mm); Height - Seated (Max): 0.030" (0.75mm); Number of Terminations: 2; Failure Rate: -
footprint SMD-1206-RES
pins: 1, 2

## ERJ-8BWJR039V
designator R?, comment 0.039
RES SMD 0.039 OHM 5% 1W 1206; Part Number: ERJ-8BWJR039V; Manufacturer: Panasonic Electronic Components; Factory Stock: 0; Unit Price (USD): 0.15894; @ qty: 1500; Minimum Quantity: 1; Temperature Coefficient: ±150ppm/°C; Datasheets: https://industrial.panasonic.com/cdbs/www-data/pdf/RDA0000/AOA0000C239.pdf; Image: //media.digikey.com/Renders/Panasonic%20Renders/ERJ-1206%20Pkg.jpg; Digi-Key Part Number: P.039AVCT-ND; Quantity Available: 10962; Packaging: Cut Tape (CT); Series: ERJ; Part Status: Active; Value: 0.039; Tolerance: ±5%; Power (Watts): 1W; Composition: Thick Film; Features: Automotive AEC-Q200, Current Sense; Operating Temperature: -55°C ~ 155°C; Package / Case: 1206 (3216 Metric); Supplier Device Package: 1206; Size / Dimension: 0.126" L x 0.063" W (3.20mm x 1.60mm); Height - Seated (Max): 0.030" (0.75mm); Number of Terminations: 2; Failure Rate: -
footprint SMD-1206-RES
pins: 1, 2

## ERJ-8BWJR043V
designator R?, comment 0.043
RES SMD 0.043 OHM 5% 1W 1206; Part Number: ERJ-8BWJR043V; Manufacturer: Panasonic Electronic Components; Factory Stock: 0; Unit Price (USD): 0.15894; @ qty: 1500; Minimum Quantity: 1; Temperature Coefficient: ±150ppm/°C; Datasheets: https://industrial.panasonic.com/cdbs/www-data/pdf/RDA0000/AOA0000C239.pdf; Image: //media.digikey.com/Renders/Panasonic%20Renders/ERJ-1206%20Pkg.jpg; Digi-Key Part Number: P.043AVCT-ND; Quantity Available: 8861; Packaging: Cut Tape (CT); Series: ERJ; Part Status: Active; Value: 0.043; Tolerance: ±5%; Power (Watts): 1W; Composition: Thick Film; Features: Automotive AEC-Q200, Current Sense; Operating Temperature: -55°C ~ 155°C; Package / Case: 1206 (3216 Metric); Supplier Device Package: 1206; Size / Dimension: 0.126" L x 0.063" W (3.20mm x 1.60mm); Height - Seated (Max): 0.030" (0.75mm); Number of Terminations: 2; Failure Rate: -
footprint SMD-1206-RES
pins: 1, 2

## ERJ-8BWJR047V
designator R?, comment 0.047
RES SMD 0.047 OHM 5% 1W 1206; Part Number: ERJ-8BWJR047V; Manufacturer: Panasonic Electronic Components; Factory Stock: 0; Unit Price (USD): 0.15894; @ qty: 1500; Minimum Quantity: 1; Temperature Coefficient: ±100ppm/°C; Datasheets: https://industrial.panasonic.com/cdbs/www-data/pdf/RDA0000/AOA0000C239.pdf; Image: //media.digikey.com/Renders/Panasonic%20Renders/ERJ-1206%20Pkg.jpg; Digi-Key Part Number: P.047AVCT-ND; Quantity Available: 4105; Packaging: Cut Tape (CT); Series: ERJ; Part Status: Active; Value: 0.047; Tolerance: ±5%; Power (Watts): 1W; Composition: Thick Film; Features: Automotive AEC-Q200, Current Sense; Operating Temperature: -55°C ~ 155°C; Package / Case: 1206 (3216 Metric); Supplier Device Package: 1206; Size / Dimension: 0.126" L x 0.063" W (3.20mm x 1.60mm); Height - Seated (Max): 0.030" (0.75mm); Number of Terminations: 2; Failure Rate: -
footprint SMD-1206-RES
pins: 1, 2

## ERJ-8BWJR050V
designator R?, comment 0.05
RES SMD 0.05 OHM 5% 1W 1206; Part Number: ERJ-8BWJR050V; Manufacturer: Panasonic Electronic Components; Factory Stock: 0; Unit Price (USD): 0.13336; @ qty: 1500; Minimum Quantity: 1; Temperature Coefficient: ±100ppm/°C; Datasheets: https://industrial.panasonic.com/cdbs/www-data/pdf/RDA0000/AOA0000C239.pdf; Image: //media.digikey.com/Renders/Panasonic%20Renders/ERJ-1206%20Pkg.jpg; Digi-Key Part Number: P17694CT-ND; Quantity Available: 4375; Packaging: Cut Tape (CT); Series: ERJ; Part Status: Active; Value: 0.05; Tolerance: ±5%; Power (Watts): 1W; Composition: Thick Film; Features: Automotive AEC-Q200, Current Sense; Operating Temperature: -55°C ~ 155°C; Package / Case: 1206 (3216 Metric); Supplier Device Package: 1206; Size / Dimension: 0.126" L x 0.063" W (3.20mm x 1.60mm); Height - Seated (Max): 0.030" (0.75mm); Number of Terminations: 2; Failure Rate: -
footprint SMD-1206-RES
pins: 1, 2

## ERJ-8BWJR051V
designator R?, comment 0.051
RES SMD 0.051 OHM 5% 1W 1206; Part Number: ERJ-8BWJR051V; Manufacturer: Panasonic Electronic Components; Factory Stock: 0; Unit Price (USD): 0.15894; @ qty: 1500; Minimum Quantity: 1; Temperature Coefficient: ±100ppm/°C; Datasheets: https://industrial.panasonic.com/cdbs/www-data/pdf/RDA0000/AOA0000C239.pdf; Image: //media.digikey.com/Renders/Panasonic%20Renders/ERJ-1206%20Pkg.jpg; Digi-Key Part Number: P.051AVCT-ND; Quantity Available: 5679; Packaging: Cut Tape (CT); Series: ERJ; Part Status: Active; Value: 0.051; Tolerance: ±5%; Power (Watts): 1W; Composition: Thick Film; Features: Automotive AEC-Q200, Current Sense; Operating Temperature: -55°C ~ 155°C; Package / Case: 1206 (3216 Metric); Supplier Device Package: 1206; Size / Dimension: 0.126" L x 0.063" W (3.20mm x 1.60mm); Height - Seated (Max): 0.030" (0.75mm); Number of Terminations: 2; Failure Rate: -
footprint SMD-1206-RES
pins: 1, 2

## ERJ-8BWJR056V
designator R?, comment 0.056
RES SMD 0.056 OHM 5% 1W 1206; Part Number: ERJ-8BWJR056V; Manufacturer: Panasonic Electronic Components; Factory Stock: 0; Unit Price (USD): 0.15894; @ qty: 1500; Minimum Quantity: 1; Temperature Coefficient: ±100ppm/°C; Datasheets: https://industrial.panasonic.com/cdbs/www-data/pdf/RDA0000/AOA0000C239.pdf; Image: //media.digikey.com/Renders/Panasonic%20Renders/ERJ-1206%20Pkg.jpg; Digi-Key Part Number: P.056AVCT-ND; Quantity Available: 10807; Packaging: Cut Tape (CT); Series: ERJ; Part Status: Active; Value: 0.056; Tolerance: ±5%; Power (Watts): 1W; Composition: Thick Film; Features: Automotive AEC-Q200, Current Sense; Operating Temperature: -55°C ~ 155°C; Package / Case: 1206 (3216 Metric); Supplier Device Package: 1206; Size / Dimension: 0.126" L x 0.063" W (3.20mm x 1.60mm); Height - Seated (Max): 0.030" (0.75mm); Number of Terminations: 2; Failure Rate: -
footprint SMD-1206-RES
pins: 1, 2

## ERJ-8BWJR062V
designator R?, comment 0.062
RES SMD 0.062 OHM 5% 1W 1206; Part Number: ERJ-8BWJR062V; Manufacturer: Panasonic Electronic Components; Factory Stock: 0; Unit Price (USD): 0.15894; @ qty: 1500; Minimum Quantity: 1; Temperature Coefficient: ±100ppm/°C; Datasheets: https://industrial.panasonic.com/cdbs/www-data/pdf/RDA0000/AOA0000C239.pdf; Image: //media.digikey.com/Renders/Panasonic%20Renders/ERJ-1206%20Pkg.jpg; Digi-Key Part Number: P.062AVCT-ND; Quantity Available: 8978; Packaging: Cut Tape (CT); Series: ERJ; Part Status: Active; Value: 0.062; Tolerance: ±5%; Power (Watts): 1W; Composition: Thick Film; Features: Automotive AEC-Q200, Current Sense; Operating Temperature: -55°C ~ 155°C; Package / Case: 1206 (3216 Metric); Supplier Device Package: 1206; Size / Dimension: 0.126" L x 0.063" W (3.20mm x 1.60mm); Height - Seated (Max): 0.030" (0.75mm); Number of Terminations: 2; Failure Rate: -
footprint SMD-1206-RES
pins: 1, 2

## ERJ-8BWJR068V
designator R?, comment 0.068
RES SMD 0.068 OHM 5% 1W 1206; Part Number: ERJ-8BWJR068V; Manufacturer: Panasonic Electronic Components; Factory Stock: 0; Unit Price (USD): 0.15894; @ qty: 1500; Minimum Quantity: 1; Temperature Coefficient: ±100ppm/°C; Datasheets: https://industrial.panasonic.com/cdbs/www-data/pdf/RDA0000/AOA0000C239.pdf; Image: //media.digikey.com/Renders/Panasonic%20Renders/ERJ-1206%20Pkg.jpg; Digi-Key Part Number: P.068AVCT-ND; Quantity Available: 8479; Packaging: Cut Tape (CT); Series: ERJ; Part Status: Active; Value: 0.068; Tolerance: ±5%; Power (Watts): 1W; Composition: Thick Film; Features: Automotive AEC-Q200, Current Sense; Operating Temperature: -55°C ~ 155°C; Package / Case: 1206 (3216 Metric); Supplier Device Package: 1206; Size / Dimension: 0.126" L x 0.063" W (3.20mm x 1.60mm); Height - Seated (Max): 0.030" (0.75mm); Number of Terminations: 2; Failure Rate: -
footprint SMD-1206-RES
pins: 1, 2

## ERJ-8BWJR075V
designator R?, comment 0.075
RES SMD 0.075 OHM 5% 1W 1206; Part Number: ERJ-8BWJR075V; Manufacturer: Panasonic Electronic Components; Factory Stock: 0; Unit Price (USD): 0.15894; @ qty: 1500; Minimum Quantity: 1; Temperature Coefficient: ±100ppm/°C; Datasheets: https://industrial.panasonic.com/cdbs/www-data/pdf/RDA0000/AOA0000C239.pdf; Image: //media.digikey.com/Renders/Panasonic%20Renders/ERJ-1206%20Pkg.jpg; Digi-Key Part Number: P.075AVCT-ND; Quantity Available: 9585; Packaging: Cut Tape (CT); Series: ERJ; Part Status: Active; Value: 0.075; Tolerance: ±5%; Power (Watts): 1W; Composition: Thick Film; Features: Automotive AEC-Q200, Current Sense; Operating Temperature: -55°C ~ 155°C; Package / Case: 1206 (3216 Metric); Supplier Device Package: 1206; Size / Dimension: 0.126" L x 0.063" W (3.20mm x 1.60mm); Height - Seated (Max): 0.030" (0.75mm); Number of Terminations: 2; Failure Rate: -
footprint SMD-1206-RES
pins: 1, 2

## ERJ-8BWJR082V
designator R?, comment 0.082
RES SMD 0.082 OHM 5% 1W 1206; Part Number: ERJ-8BWJR082V; Manufacturer: Panasonic Electronic Components; Factory Stock: 0; Unit Price (USD): 0.15894; @ qty: 1500; Minimum Quantity: 1; Temperature Coefficient: ±100ppm/°C; Datasheets: https://industrial.panasonic.com/cdbs/www-data/pdf/RDA0000/AOA0000C239.pdf; Image: //media.digikey.com/Renders/Panasonic%20Renders/ERJ-1206%20Pkg.jpg; Digi-Key Part Number: P.082AVCT-ND; Quantity Available: 7750; Packaging: Cut Tape (CT); Series: ERJ; Part Status: Active; Value: 0.082; Tolerance: ±5%; Power (Watts): 1W; Composition: Thick Film; Features: Automotive AEC-Q200, Current Sense; Operating Temperature: -55°C ~ 155°C; Package / Case: 1206 (3216 Metric); Supplier Device Package: 1206; Size / Dimension: 0.126" L x 0.063" W (3.20mm x 1.60mm); Height - Seated (Max): 0.030" (0.75mm); Number of Terminations: 2; Failure Rate: -
footprint SMD-1206-RES
pins: 1, 2

## ERJ-8BWJR091V
designator R?, comment 0.091
RES SMD 0.091 OHM 5% 1W 1206; Part Number: ERJ-8BWJR091V; Manufacturer: Panasonic Electronic Components; Factory Stock: 0; Unit Price (USD): 0.15894; @ qty: 1500; Minimum Quantity: 1; Temperature Coefficient: ±100ppm/°C; Datasheets: https://industrial.panasonic.com/cdbs/www-data/pdf/RDA0000/AOA0000C239.pdf; Image: //media.digikey.com/Renders/Panasonic%20Renders/ERJ-1206%20Pkg.jpg; Digi-Key Part Number: P.091AVCT-ND; Quantity Available: 11879; Packaging: Cut Tape (CT); Series: ERJ; Part Status: Active; Value: 0.091; Tolerance: ±5%; Power (Watts): 1W; Composition: Thick Film; Features: Automotive AEC-Q200, Current Sense; Operating Temperature: -55°C ~ 155°C; Package / Case: 1206 (3216 Metric); Supplier Device Package: 1206; Size / Dimension: 0.126" L x 0.063" W (3.20mm x 1.60mm); Height - Seated (Max): 0.030" (0.75mm); Number of Terminations: 2; Failure Rate: -
footprint SMD-1206-RES
pins: 1, 2

## ERJ-8BWJR100V
designator R?, comment 0.1
RES SMD 0.1 OHM 5% 1W 1206; Part Number: ERJ-8BWJR100V; Manufacturer: Panasonic Electronic Components; Factory Stock: 0; Unit Price (USD): 0.15894; @ qty: 1500; Minimum Quantity: 1; Temperature Coefficient: ±100ppm/°C; Datasheets: https://industrial.panasonic.com/cdbs/www-data/pdf/RDA0000/AOA0000C239.pdf; Image: //media.digikey.com/Renders/Panasonic%20Renders/ERJ-1206%20Pkg.jpg; Digi-Key Part Number: P.10AVCT-ND; Quantity Available: 1695; Packaging: Cut Tape (CT); Series: ERJ; Part Status: Active; Value: 0.1; Tolerance: ±5%; Power (Watts): 1W; Composition: Thick Film; Features: Automotive AEC-Q200, Current Sense; Operating Temperature: -55°C ~ 155°C; Package / Case: 1206 (3216 Metric); Supplier Device Package: 1206; Size / Dimension: 0.126" L x 0.063" W (3.20mm x 1.60mm); Height - Seated (Max): 0.030" (0.75mm); Number of Terminations: 2; Failure Rate: -
footprint SMD-1206-RES
pins: 1, 2

## ERJ-8CWFR010V
designator R?, comment 0.01
RES SMD 0.01 OHM 1% 1W 1206; Part Number: ERJ-8CWFR010V; Manufacturer: Panasonic Electronic Components; Factory Stock: 0; Unit Price (USD): 0.12302; @ qty: 1500; Minimum Quantity: 1; Temperature Coefficient: ±75ppm/°C; Datasheets: https://industrial.panasonic.com/cdbs/www-data/pdf/RDA0000/AOA0000C239.pdf; Image: //media.digikey.com/Renders/Panasonic%20Renders/ERJ-1206%20Pkg.jpg; Digi-Key Part Number: P0.01BVCT-ND; Quantity Available: 2; Packaging: Cut Tape (CT); Series: ERJ; Part Status: Active; Value: 0.01; Tolerance: ±1%; Power (Watts): 1W; Composition: Thick Film; Features: Automotive AEC-Q200, Current Sense; Operating Temperature: -55°C ~ 155°C; Package / Case: 1206 (3216 Metric); Supplier Device Package: 1206; Size / Dimension: 0.126" L x 0.063" W (3.20mm x 1.60mm); Height - Seated (Max): 0.030" (0.75mm); Number of Terminations: 2; Failure Rate: -
footprint SMD-1206-RES
pins: 1, 2

## ERJ-8CWFR011V
designator R?, comment 0.011
RES SMD 0.011 OHM 1% 1W 1206; Part Number: ERJ-8CWFR011V; Manufacturer: Panasonic Electronic Components; Factory Stock: 0; Unit Price (USD): 0.12302; @ qty: 1500; Minimum Quantity: 1; Temperature Coefficient: ±75ppm/°C; Datasheets: https://industrial.panasonic.com/cdbs/www-data/pdf/RDA0000/AOA0000C239.pdf; Image: //media.digikey.com/Renders/Panasonic%20Renders/ERJ-1206%20Pkg.jpg; Digi-Key Part Number: P0.011BVCT-ND; Quantity Available: 9608; Packaging: Cut Tape (CT); Series: ERJ; Part Status: Active; Value: 0.011; Tolerance: ±1%; Power (Watts): 1W; Composition: Thick Film; Features: Automotive AEC-Q200, Current Sense; Operating Temperature: -55°C ~ 155°C; Package / Case: 1206 (3216 Metric); Supplier Device Package: 1206; Size / Dimension: 0.126" L x 0.063" W (3.20mm x 1.60mm); Height - Seated (Max): 0.030" (0.75mm); Number of Terminations: 2; Failure Rate: -
footprint SMD-1206-RES
pins: 1, 2

## ERJ-8CWFR012V
designator R?, comment 0.012
RES SMD 0.012 OHM 1% 1W 1206; Part Number: ERJ-8CWFR012V; Manufacturer: Panasonic Electronic Components; Factory Stock: 0; Unit Price (USD): 0.12302; @ qty: 1500; Minimum Quantity: 1; Temperature Coefficient: ±75ppm/°C; Datasheets: https://industrial.panasonic.com/cdbs/www-data/pdf/RDA0000/AOA0000C239.pdf; Image: //media.digikey.com/Renders/Panasonic%20Renders/ERJ-1206%20Pkg.jpg; Digi-Key Part Number: P0.012BVCT-ND; Quantity Available: 7762; Packaging: Cut Tape (CT); Series: ERJ; Part Status: Active; Value: 0.012; Tolerance: ±1%; Power (Watts): 1W; Composition: Thick Film; Features: Automotive AEC-Q200, Current Sense; Operating Temperature: -55°C ~ 155°C; Package / Case: 1206 (3216 Metric); Supplier Device Package: 1206; Size / Dimension: 0.126" L x 0.063" W (3.20mm x 1.60mm); Height - Seated (Max): 0.030" (0.75mm); Number of Terminations: 2; Failure Rate: -
footprint SMD-1206-RES
pins: 1, 2

## ERJ-8CWFR013V
designator R?, comment 0.013
RES SMD 0.013 OHM 1% 1W 1206; Part Number: ERJ-8CWFR013V; Manufacturer: Panasonic Electronic Components; Factory Stock: 0; Unit Price (USD): 0.12302; @ qty: 1500; Minimum Quantity: 1; Temperature Coefficient: ±75ppm/°C; Datasheets: https://industrial.panasonic.com/cdbs/www-data/pdf/RDA0000/AOA0000C239.pdf; Image: //media.digikey.com/Renders/Panasonic%20Renders/ERJ-1206%20Pkg.jpg; Digi-Key Part Number: P0.013BVCT-ND; Quantity Available: 6309; Packaging: Cut Tape (CT); Series: ERJ; Part Status: Active; Value: 0.013; Tolerance: ±1%; Power (Watts): 1W; Composition: Thick Film; Features: Automotive AEC-Q200, Current Sense; Operating Temperature: -55°C ~ 155°C; Package / Case: 1206 (3216 Metric); Supplier Device Package: 1206; Size / Dimension: 0.126" L x 0.063" W (3.20mm x 1.60mm); Height - Seated (Max): 0.030" (0.75mm); Number of Terminations: 2; Failure Rate: -
footprint SMD-1206-RES
pins: 1, 2

## ERJ-8CWFR015V
designator R?, comment 0.015
RES SMD 0.015 OHM 1% 1W 1206; Part Number: ERJ-8CWFR015V; Manufacturer: Panasonic Electronic Components; Factory Stock: 0; Unit Price (USD): 0.12302; @ qty: 1500; Minimum Quantity: 1; Temperature Coefficient: ±75ppm/°C; Datasheets: https://industrial.panasonic.com/cdbs/www-data/pdf/RDA0000/AOA0000C239.pdf; Image: //media.digikey.com/Renders/Panasonic%20Renders/ERJ-1206%20Pkg.jpg; Digi-Key Part Number: P0.015BVCT-ND; Quantity Available: 37395; Packaging: Cut Tape (CT); Series: ERJ; Part Status: Active; Value: 0.015; Tolerance: ±1%; Power (Watts): 1W; Composition: Thick Film; Features: Automotive AEC-Q200, Current Sense; Operating Temperature: -55°C ~ 155°C; Package / Case: 1206 (3216 Metric); Supplier Device Package: 1206; Size / Dimension: 0.126" L x 0.063" W (3.20mm x 1.60mm); Height - Seated (Max): 0.030" (0.75mm); Number of Terminations: 2; Failure Rate: -
footprint SMD-1206-RES
pins: 1, 2

## ERJ-8CWFR016V
designator R?, comment 0.016
RES SMD 0.016 OHM 1% 1W 1206; Part Number: ERJ-8CWFR016V; Manufacturer: Panasonic Electronic Components; Factory Stock: 0; Unit Price (USD): 0.12302; @ qty: 1500; Minimum Quantity: 1; Temperature Coefficient: ±75ppm/°C; Datasheets: https://industrial.panasonic.com/cdbs/www-data/pdf/RDA0000/AOA0000C239.pdf; Image: //media.digikey.com/Renders/Panasonic%20Renders/ERJ-1206%20Pkg.jpg; Digi-Key Part Number: P0.016BVCT-ND; Quantity Available: 5816; Packaging: Cut Tape (CT); Series: ERJ; Part Status: Active; Value: 0.016; Tolerance: ±1%; Power (Watts): 1W; Composition: Thick Film; Features: Automotive AEC-Q200, Current Sense; Operating Temperature: -55°C ~ 155°C; Package / Case: 1206 (3216 Metric); Supplier Device Package: 1206; Size / Dimension: 0.126" L x 0.063" W (3.20mm x 1.60mm); Height - Seated (Max): 0.030" (0.75mm); Number of Terminations: 2; Failure Rate: -
footprint SMD-1206-RES
pins: 1, 2

## ERJ-8CWFR018V
designator R?, comment 0.018
RES SMD 0.018 OHM 1% 1W 1206; Part Number: ERJ-8CWFR018V; Manufacturer: Panasonic Electronic Components; Factory Stock: 0; Unit Price (USD): 0.12302; @ qty: 1500; Minimum Quantity: 1; Temperature Coefficient: ±75ppm/°C; Datasheets: https://industrial.panasonic.com/cdbs/www-data/pdf/RDA0000/AOA0000C239.pdf; Image: //media.digikey.com/Renders/Panasonic%20Renders/ERJ-1206%20Pkg.jpg; Digi-Key Part Number: P0.018BVCT-ND; Quantity Available: 7574; Packaging: Cut Tape (CT); Series: ERJ; Part Status: Active; Value: 0.018; Tolerance: ±1%; Power (Watts): 1W; Composition: Thick Film; Features: Automotive AEC-Q200, Current Sense; Operating Temperature: -55°C ~ 155°C; Package / Case: 1206 (3216 Metric); Supplier Device Package: 1206; Size / Dimension: 0.126" L x 0.063" W (3.20mm x 1.60mm); Height - Seated (Max): 0.030" (0.75mm); Number of Terminations: 2; Failure Rate: -
footprint SMD-1206-RES
pins: 1, 2

## ERJ-8CWFR020V
designator R?, comment 0.02
RES SMD 0.02 OHM 1% 1W 1206; Part Number: ERJ-8CWFR020V; Manufacturer: Panasonic Electronic Components; Factory Stock: 0; Unit Price (USD): 0.12302; @ qty: 1500; Minimum Quantity: 1; Temperature Coefficient: ±75ppm/°C; Datasheets: https://industrial.panasonic.com/cdbs/www-data/pdf/RDA0000/AOA0000C239.pdf; Image: //media.digikey.com/Renders/Panasonic%20Renders/ERJ-1206%20Pkg.jpg; Digi-Key Part Number: P0.02BVCT-ND; Quantity Available: 60713; Packaging: Cut Tape (CT); Series: ERJ; Part Status: Active; Value: 0.02; Tolerance: ±1%; Power (Watts): 1W; Composition: Thick Film; Features: Automotive AEC-Q200, Current Sense; Operating Temperature: -55°C ~ 155°C; Package / Case: 1206 (3216 Metric); Supplier Device Package: 1206; Size / Dimension: 0.126" L x 0.063" W (3.20mm x 1.60mm); Height - Seated (Max): 0.030" (0.75mm); Number of Terminations: 2; Failure Rate: -
footprint SMD-1206-RES
pins: 1, 2

## ERJ-8CWFR022V
designator R?, comment 0.022
RES SMD 0.022 OHM 1% 1W 1206; Part Number: ERJ-8CWFR022V; Manufacturer: Panasonic Electronic Components; Factory Stock: 0; Unit Price (USD): 0.12302; @ qty: 1500; Minimum Quantity: 1; Temperature Coefficient: ±75ppm/°C; Datasheets: https://industrial.panasonic.com/cdbs/www-data/pdf/RDA0000/AOA0000C239.pdf; Image: //media.digikey.com/Renders/Panasonic%20Renders/ERJ-1206%20Pkg.jpg; Digi-Key Part Number: P0.022BVCT-ND; Quantity Available: 15909; Packaging: Cut Tape (CT); Series: ERJ; Part Status: Active; Value: 0.022; Tolerance: ±1%; Power (Watts): 1W; Composition: Thick Film; Features: Automotive AEC-Q200, Current Sense; Operating Temperature: -55°C ~ 155°C; Package / Case: 1206 (3216 Metric); Supplier Device Package: 1206; Size / Dimension: 0.126" L x 0.063" W (3.20mm x 1.60mm); Height - Seated (Max): 0.030" (0.75mm); Number of Terminations: 2; Failure Rate: -
footprint SMD-1206-RES
pins: 1, 2

## ERJ-8CWFR024V
designator R?, comment 0.024
RES SMD 0.024 OHM 1% 1W 1206; Part Number: ERJ-8CWFR024V; Manufacturer: Panasonic Electronic Components; Factory Stock: 0; Unit Price (USD): 0.12302; @ qty: 1500; Minimum Quantity: 1; Temperature Coefficient: ±75ppm/°C; Datasheets: https://industrial.panasonic.com/cdbs/www-data/pdf/RDA0000/AOA0000C239.pdf; Image: //media.digikey.com/Renders/Panasonic%20Renders/ERJ-1206%20Pkg.jpg; Digi-Key Part Number: P0.024BVCT-ND; Quantity Available: 3680; Packaging: Cut Tape (CT); Series: ERJ; Part Status: Active; Value: 0.024; Tolerance: ±1%; Power (Watts): 1W; Composition: Thick Film; Features: Automotive AEC-Q200, Current Sense; Operating Temperature: -55°C ~ 155°C; Package / Case: 1206 (3216 Metric); Supplier Device Package: 1206; Size / Dimension: 0.126" L x 0.063" W (3.20mm x 1.60mm); Height - Seated (Max): 0.030" (0.75mm); Number of Terminations: 2; Failure Rate: -
footprint SMD-1206-RES
pins: 1, 2